# Altium footprint library TI Power Management Linear Regulator Single Channel LDO (0-350mA).PcbLib: 63 footprints (part 2 of 4)
Each footprint in its own frame and in the unit in brackets; x right, y up, seen from the top. Pads: shape width x height; smd on the part's side, far side on the other; paste and mask are expansions set on the pad; w line width, h text height; cw(c..) or ccw(c..) is an arc to the next point about the centre after c.
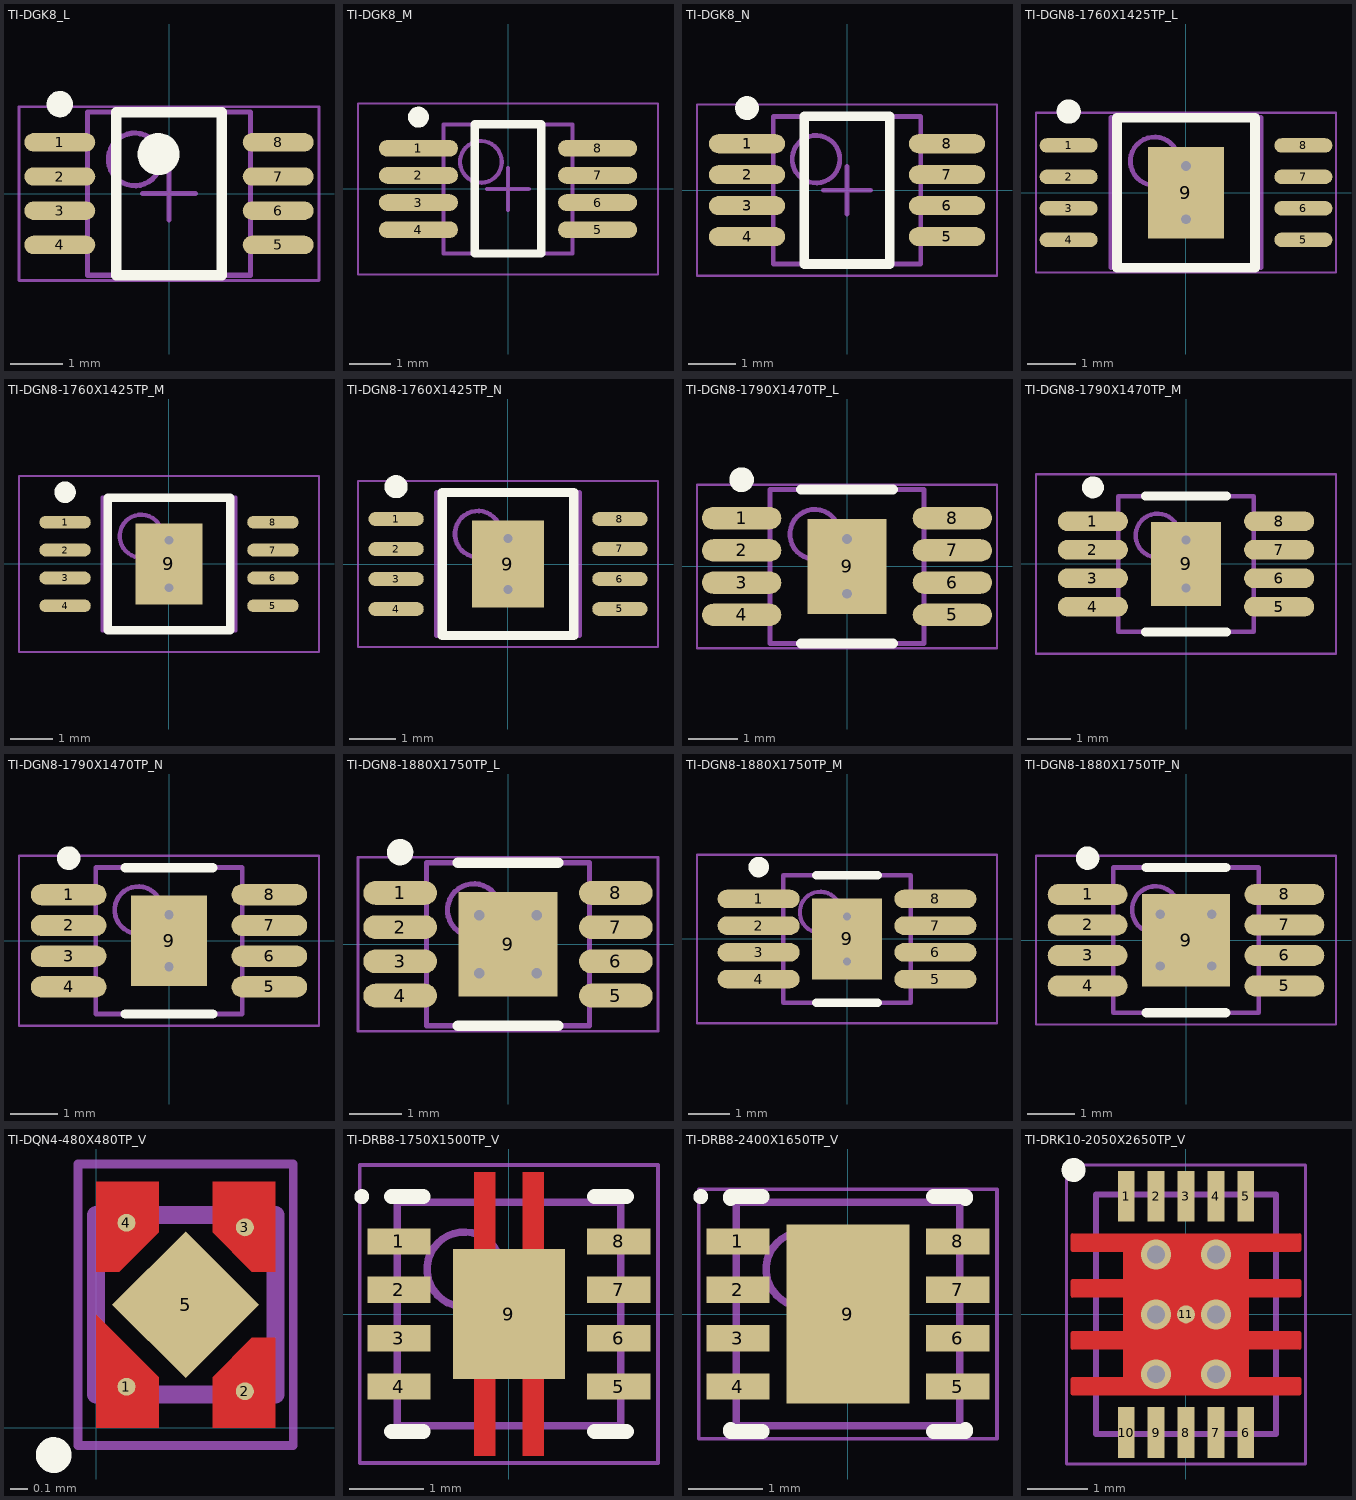
[diagram p1: the footprints below, top view; thin cyan lines are the x and y axes]

## TI-DGK8_L [mm] "SOP, 8-Leads, Body 3x3mm, Pitch 0.65mm, IPC High Density"
height 1.1
pads (8):
  oval 1.35x0.35 smd: 1(-2.075,0.975) 2(-2.075,0.325) 3(-2.075,-0.325) 4(-2.075,-0.975) 5(2.075,-0.975) 6(2.075,-0.325) 7(2.075,0.325) 8(2.075,0.975)
Top Overlay:
  circle w0.25: c-2.075,1.7 r0.125
  circle w0.4: c-0.2,0.75 r0.2
  lines w0.2: -1,-1.55 -1,1.55 1,1.55 1,-1.55 -1,-1.55
Mechanical 13:
  circle w0.1: c-0.65,0.65 r0.5
  lines w0.1: -1.55,-1.55 -1.55,1.55 1.55,1.55 1.55,-1.55 -1.55,-1.55
Mechanical 15:
  lines w0.05: -2.85,-1.65 -2.85,1.65 2.85,1.65 2.85,-1.65 -2.85,-1.65
  lines w0.1: -0.5,0 0.5,0 ; 0,-0.5 0,0.5
3D body: height 1.1, standoff 0.05, extent -1.55,-1.55 1.55,1.55

## TI-DGK8_M [mm] "SOP, 8-Leads, Body 3x3mm, Pitch 0.65mm, IPC Low Density"
height 1.1
pads (8):
  oval 1.9x0.4 smd: 1(-2.15,0.975) 2(-2.15,0.325) 3(-2.15,-0.325) 4(-2.15,-0.975) 5(2.15,-0.975) 6(2.15,-0.325) 7(2.15,0.325) 8(2.15,0.975)
Top Overlay:
  circle w0.25: c-2.15,1.725 r0.125
  lines w0.2: -0.8,-1.55 -0.8,1.55 0.8,1.55 0.8,-1.55 -0.8,-1.55
Mechanical 13:
  circle w0.1: c-0.65,0.65 r0.5
  lines w0.1: -1.55,-1.55 -1.55,1.55 1.55,1.55 1.55,-1.55 -1.55,-1.55
Mechanical 15:
  lines w0.05: -3.6,-2.05 -3.6,2.05 3.6,2.05 3.6,-2.05 -3.6,-2.05
  lines w0.1: -0.5,0 0.5,0 ; 0,-0.5 0,0.5
3D body: height 1.1, standoff 0.05, extent -1.55,-1.55 1.55,1.55

## TI-DGK8_N [mm] "SOP, 8-Leads, Body 3x3mm, Pitch 0.65mm, IPC Medium Density"
height 1.1
pads (8):
  oval 1.6x0.4 smd: 1(-2.1,0.975) 2(-2.1,0.325) 3(-2.1,-0.325) 4(-2.1,-0.975) 5(2.1,-0.975) 6(2.1,-0.325) 7(2.1,0.325) 8(2.1,0.975)
Top Overlay:
  circle w0.25: c-2.1,1.725 r0.125
  lines w0.2: -0.9,-1.55 0.9,-1.55 0.9,1.55 -0.9,1.55 -0.9,-1.55
Mechanical 13:
  circle w0.1: c-0.65,0.65 r0.5
  lines w0.1: -1.55,-1.55 1.55,-1.55 1.55,1.55 -1.55,1.55 -1.55,-1.55
Mechanical 15:
  lines w0.05: -3.15,-1.8 3.15,-1.8 3.15,1.8 -3.15,1.8 -3.15,-1.8
  lines w0.1: -0.5,0 0.5,0 ; 0,-0.5 0,0.5
3D body: height 1.1, standoff 0.05, extent -1.55,-1.55 1.55,1.55

## TI-DGN8-1760X1425TP_L [mm] "SOIC, 8-Leads, Body 3x3mm, Pitch 0.65mm, Thermal Pad 1.76x1.425mm, IPC High Density"
height 1.1
pads (9):
  oval 1.2x0.3 smd: 1(-2.425,0.975) 2(-2.425,0.325) 3(-2.425,-0.325) 4(-2.425,-0.975) 5(2.425,-0.975) 6(2.425,-0.325) 7(2.425,0.325) 8(2.425,0.975)
  rect 1.57x1.89 smd: 9(0,0)
via 0,-0.55 diameter 0.5 hole 0.2
via 0,0.55 diameter 0.5 hole 0.2
Top Overlay:
  circle w0.25: c-2.425,1.675 r0.125
  lines w0.2: -1.425,-1.55 1.425,-1.55 1.425,1.55 -1.425,1.55 -1.425,-1.55
Mechanical 13:
  circle w0.1: c-0.65,0.65 r0.5
  lines w0.1: -1.55,-1.55 1.55,-1.55 1.55,1.55 -1.55,1.55 -1.55,-1.55
Mechanical 15:
  lines w0.05: -3.1,-1.65 3.1,-1.65 3.1,1.65 -3.1,1.65 -3.1,-1.65
  lines w0.1: -0.5,0 0.5,0 ; 0,-0.5 0,0.5
3D body: height 1.1, standoff 0.05, extent -1.55,-1.55 1.55,1.55

## TI-DGN8-1760X1425TP_M [mm] "SOIC, 8-Leads, Body 3x3mm, Pitch 0.65mm, Thermal Pad 1.76x1.425mm, IPC Low Density"
height 1.1
pads (9):
  oval 1.2x0.3 smd: 1(-2.425,0.975) 2(-2.425,0.325) 3(-2.425,-0.325) 4(-2.425,-0.975) 5(2.425,-0.975) 6(2.425,-0.325) 7(2.425,0.325) 8(2.425,0.975)
  rect 1.57x1.89 smd: 9(0,0)
via 0,-0.55 diameter 0.5 hole 0.2
via 0,0.55 diameter 0.5 hole 0.2
Top Overlay:
  circle w0.25: c-2.425,1.675 r0.125
  lines w0.2: -1.425,-1.55 1.425,-1.55 1.425,1.55 -1.425,1.55 -1.425,-1.55
Mechanical 13:
  circle w0.1: c-0.65,0.65 r0.5
  lines w0.1: -1.55,-1.55 1.55,-1.55 1.55,1.55 -1.55,1.55 -1.55,-1.55
Mechanical 15:
  lines w0.05: -3.5,-2.05 3.5,-2.05 3.5,2.05 -3.5,2.05 -3.5,-2.05
  lines w0.1: -0.5,0 0.5,0 ; 0,-0.5 0,0.5
3D body: height 1.1, standoff 0.05, extent -1.55,-1.55 1.55,1.55

## TI-DGN8-1760X1425TP_N [mm] "SOIC, 8-Leads, Body 3x3mm, Pitch 0.65mm, Thermal Pad 1.76x1.425mm, IPC Medium Density"
height 1.1
pads (9):
  oval 1.2x0.3 smd: 1(-2.425,0.975) 2(-2.425,0.325) 3(-2.425,-0.325) 4(-2.425,-0.975) 5(2.425,-0.975) 6(2.425,-0.325) 7(2.425,0.325) 8(2.425,0.975)
  rect 1.57x1.89 smd: 9(0,0)
via 0,-0.55 diameter 0.5 hole 0.2
via 0,0.55 diameter 0.5 hole 0.2
Top Overlay:
  circle w0.25: c-2.425,1.675 r0.125
  lines w0.2: -1.425,-1.55 1.425,-1.55 1.425,1.55 -1.425,1.55 -1.425,-1.55
Mechanical 13:
  circle w0.1: c-0.65,0.65 r0.5
  lines w0.1: -1.55,-1.55 1.55,-1.55 1.55,1.55 -1.55,1.55 -1.55,-1.55
Mechanical 15:
  lines w0.05: -3.25,-1.8 3.25,-1.8 3.25,1.8 -3.25,1.8 -3.25,-1.8
  lines w0.1: -0.5,0 0.5,0 ; 0,-0.5 0,0.5
3D body: height 1.1, standoff 0.05, extent -1.55,-1.55 1.55,1.55

## TI-DGN8-1790X1470TP_L [mm] "SOIC, 8-Leads, Body 3x3mm, Pitch 0.65mm, Thermal Pad 1.79X1.47mm, IPC High Density"
height 1.1
pads (9):
  oval 1.6x0.45 smd: 1(-2.125,0.975) 2(-2.125,0.325) 3(-2.125,-0.325) 4(-2.125,-0.975) 5(2.125,-0.975) 6(2.125,-0.325) 7(2.125,0.325) 8(2.125,0.975)
  rect 1.6x1.92 smd: 9(0,0)
via 0,0.55 diameter 0.5 hole 0.2
via 0,-0.55 diameter 0.5 hole 0.2
Top Overlay:
  circle w0.25: c-2.125,1.75 r0.125
  lines w0.2: -0.925,-1.55 0.925,-1.55 ; -0.925,1.55 0.925,1.55
Mechanical 13:
  circle w0.1: c-0.65,0.65 r0.5
  lines w0.1: -1.55,-1.55 -1.55,1.55 1.55,1.55 1.55,-1.55 -1.55,-1.55
Mechanical 15:
  lines w0.05: -3.025,-1.65 -3.025,1.65 3.025,1.65 3.025,-1.65 -3.025,-1.65
  lines w0.1: -0.5,0 0.5,0 ; 0,-0.5 0,0.5
3D body: height 1.1, standoff 0.05, extent -1.55,-1.55 1.55,1.55

## TI-DGN8-1790X1470TP_M [mm] "SOIC, 8-Leads, Body 3x3mm, Pitch 0.65mm, Thermal Pad 1.79X1.47mm, IPC Low Density"
height 1.1
pads (9):
  oval 1.6x0.45 smd: 1(-2.125,0.975) 2(-2.125,0.325) 3(-2.125,-0.325) 4(-2.125,-0.975) 5(2.125,-0.975) 6(2.125,-0.325) 7(2.125,0.325) 8(2.125,0.975)
  rect 1.6x1.92 smd: 9(0,0)
via 0,0.55 diameter 0.5 hole 0.2
via 0,-0.55 diameter 0.5 hole 0.2
Top Overlay:
  circle w0.25: c-2.125,1.75 r0.125
  lines w0.2: -0.925,-1.55 0.925,-1.55 ; -0.925,1.55 0.925,1.55
Mechanical 13:
  circle w0.1: c-0.65,0.65 r0.5
  lines w0.1: -1.55,-1.55 -1.55,1.55 1.55,1.55 1.55,-1.55 -1.55,-1.55
Mechanical 15:
  lines w0.05: -3.425,-2.05 -3.425,2.05 3.425,2.05 3.425,-2.05 -3.425,-2.05
  lines w0.1: -0.5,0 0.5,0 ; 0,-0.5 0,0.5
3D body: height 1.1, standoff 0.05, extent -1.55,-1.55 1.55,1.55

## TI-DGN8-1790X1470TP_N [mm] "SOIC, 8-Leads, Body 3x3mm, Pitch 0.65mm, Thermal Pad 1.79X1.47mm, IPC Medium Density"
height 1.1
pads (9):
  oval 1.6x0.45 smd: 1(-2.125,0.975) 2(-2.125,0.325) 3(-2.125,-0.325) 4(-2.125,-0.975) 5(2.125,-0.975) 6(2.125,-0.325) 7(2.125,0.325) 8(2.125,0.975)
  rect 1.6x1.92 smd: 9(0,0)
via 0,0.55 diameter 0.5 hole 0.2
via 0,-0.55 diameter 0.5 hole 0.2
Top Overlay:
  circle w0.25: c-2.125,1.75 r0.125
  lines w0.2: -0.925,-1.55 0.925,-1.55 ; -0.925,1.55 0.925,1.55
Mechanical 13:
  circle w0.1: c-0.65,0.65 r0.5
  lines w0.1: -1.55,-1.55 -1.55,1.55 1.55,1.55 1.55,-1.55 -1.55,-1.55
Mechanical 15:
  lines w0.05: -3.175,-1.8 -3.175,1.8 3.175,1.8 3.175,-1.8 -3.175,-1.8
  lines w0.1: -0.5,0 0.5,0 ; 0,-0.5 0,0.5
3D body: height 1.1, standoff 0.05, extent -1.55,-1.55 1.55,1.55

## TI-DGN8-1880X1750TP_L [mm] "SOP, 8-Leads, Body 3x3mm, Pitch 0.65mm, Thermal Pad 1.88x1.75mm, IPC High Density"
height 1.1
pads (9):
  oval 1.4x0.45 smd: 1(-2.05,0.975) 2(-2.05,0.325) 3(-2.05,-0.325) 4(-2.05,-0.975) 5(2.05,-0.975) 6(2.05,-0.325) 7(2.05,0.325) 8(2.05,0.975)
  rect 1.88x1.98 smd: 9(0,0)
via -0.55,0.55 diameter 0.5 hole 0.2
via 0.55,0.55 diameter 0.5 hole 0.2
via -0.55,-0.55 diameter 0.5 hole 0.2
via 0.55,-0.55 diameter 0.5 hole 0.2
Top Overlay:
  circle w0.25: c-2.05,1.75 r0.125
  lines w0.2: -0.95,-1.55 0.95,-1.55 ; -0.95,1.55 0.95,1.55
Mechanical 13:
  circle w0.1: c-0.65,0.65 r0.5
  lines w0.1: -1.55,-1.55 -1.55,1.55 1.55,1.55 1.55,-1.55 -1.55,-1.55
Mechanical 15:
  lines w0.05: -2.85,-1.65 -2.85,1.65 2.85,1.65 2.85,-1.65 -2.85,-1.65
  lines w0.1: -0.5,0 0.5,0 ; 0,-0.5 0,0.5
3D body: height 1.1, standoff 0.05, extent -1.55,-1.55 1.55,1.55

## TI-DGN8-1880X1750TP_M [mm] "SOP, 8-Leads, Body 3x3mm, Pitch 0.65mm, Thermal Pad 1.88x1.75mm, IPC Low Density"
height 1.1
pads (9):
  oval 2x0.45 smd: 1(-2.15,0.975) 2(-2.15,0.325) 3(-2.15,-0.325) 4(-2.15,-0.975) 5(2.15,-0.975) 6(2.15,-0.325) 7(2.15,0.325) 8(2.15,0.975)
  rect 1.7x1.98 smd: 9(0,0)
via 0,0.55 diameter 0.5 hole 0.2
via 0,-0.55 diameter 0.5 hole 0.2
Top Overlay:
  circle w0.25: c-2.15,1.75 r0.125
  lines w0.2: -0.75,-1.55 0.75,-1.55 ; -0.75,1.55 0.75,1.55
Mechanical 13:
  circle w0.1: c-0.65,0.65 r0.5
  lines w0.1: -1.55,-1.55 -1.55,1.55 1.55,1.55 1.55,-1.55 -1.55,-1.55
Mechanical 15:
  lines w0.05: -3.65,-2.05 -3.65,2.05 3.65,2.05 3.65,-2.05 -3.65,-2.05
  lines w0.1: -0.5,0 0.5,0 ; 0,-0.5 0,0.5
3D body: height 1.1, standoff 0.05, extent -1.55,-1.55 1.55,1.55

## TI-DGN8-1880X1750TP_N [mm] "SOP, 8-Leads, Body 3x3mm, Pitch 0.65mm, Thermal Pad 1.88x1.75mm, IPC Medium Density"
height 1.1
pads (9):
  oval 1.7x0.45 smd: 1(-2.1,0.975) 2(-2.1,0.325) 3(-2.1,-0.325) 4(-2.1,-0.975) 5(2.1,-0.975) 6(2.1,-0.325) 7(2.1,0.325) 8(2.1,0.975)
  rect 1.88x1.98 smd: 9(0,0)
via -0.55,0.55 diameter 0.5 hole 0.2
via 0.55,0.55 diameter 0.5 hole 0.2
via -0.55,-0.55 diameter 0.5 hole 0.2
via 0.55,-0.55 diameter 0.5 hole 0.2
Top Overlay:
  circle w0.25: c-2.1,1.75 r0.125
  lines w0.2: -0.85,-1.55 0.85,-1.55 ; -0.85,1.55 0.85,1.55
Mechanical 13:
  circle w0.1: c-0.65,0.65 r0.5
  lines w0.1: -1.55,-1.55 -1.55,1.55 1.55,1.55 1.55,-1.55 -1.55,-1.55
Mechanical 15:
  lines w0.05: -3.2,-1.8 -3.2,1.8 3.2,1.8 3.2,-1.8 -3.2,-1.8
  lines w0.1: -0.5,0 0.5,0 ; 0,-0.5 0,0.5
3D body: height 1.1, standoff 0.05, extent -1.55,-1.55 1.55,1.55

## TI-DQN4-480X480TP_V [mm] "SON, 4-Leads, Body 1x1mm, Pitch 0.65mm, Thermal Pad 0.5x0.5mm"
height 0.4
pads (5):
  round 0.1 smd: 1(0.17,0.228) 2(0.83,0.202) 3(0.83,1.117) 4(0.17,1.142)
  rect 0.58x0.58 smd rot 45: 5(0.5,0.685)
Top Layer:
  region: 1,1.37 0.65,1.37 0.65,1.09 0.87,0.87 1,0.87
  region: 0.35,1.37 0,1.37 0,0.87 0.13,0.87 0.35,1.09
  region: 1,0.5 0.87,0.5 0.65,0.28 0.65,0 1,0
  region: 0.35,0.28 0.35,0 0,0 0,0.63
Top Overlay:
  circle w0.1: c-0.236,-0.153 r0.05
Top Paste:
  region: 1,1.37 0.65,1.37 0.65,1.09 0.87,0.87 1,0.87
  region: 0.35,1.37 0,1.37 0,0.87 0.13,0.87 0.35,1.09
  region: 1,0.5 0.87,0.5 0.65,0.28 0.65,0 1,0
  region: 0.35,0.28 0.35,0 0,0 0,0.63
Mechanical 13:
  lines w0.1: 0,0.185 1,0.185 1,1.185 0,1.185 0,0.185
Mechanical 15:
  lines w0.05: 0.297,0.685 0.703,0.685 ; 0.5,0.482 0.5,0.888 ; -0.1,-0.1 -0.1,1.47 1.1,1.47 1.1,-0.1 -0.1,-0.1
3D body: height 0.4, standoff 0, extent 0,0.185 1,1.185

## TI-DRB8-1750X1500TP_V [mm] "SON, 8-Leads, Body 3x3mm, Pitch 0.65mm, Thermal Pad 1.50 x 3.8mm"
height 1
pads (9):
  rect 0.85x0.35 smd: 1(-1.475,0.975) 2(-1.475,0.325) 3(-1.475,-0.325) 4(-1.475,-0.975) 5(1.475,-0.975) 6(1.475,-0.325) 7(1.475,0.325) 8(1.475,0.975)
  rect 1.5x1.75 smd: 9(0,0)
Top Layer:
  region: 0.185,0.875 0.185,1.9 0.465,1.9 0.465,0.875
  region: -0.185,-0.875 -0.185,-1.9 -0.465,-1.9 -0.465,-0.875
  region: 0.185,-0.875 0.185,-1.9 0.465,-1.9 0.465,-0.875
  region: -0.185,0.875 -0.185,1.9 -0.465,1.9 -0.465,0.875
Top Overlay:
  circle w0.1: c-1.975,1.575 r0.05
  lines w0.2: -1.575,-1.575 -1.15,-1.575 ; -1.575,1.575 -1.15,1.575 ; 1.15,-1.575 1.575,-1.575 ; 1.15,1.575 1.575,1.575
Top Paste:
  region: -0.185,0.875 -0.185,1.9 -0.465,1.9 -0.465,0.875
  region: 0.185,-0.875 0.185,-1.9 0.465,-1.9 0.465,-0.875
  region: -0.185,-0.875 -0.185,-1.9 -0.465,-1.9 -0.465,-0.875
  region: 0.185,0.875 0.185,1.9 0.465,1.9 0.465,0.875
Mechanical 13:
  circle w0.1: c-0.6,0.6 r0.5
  lines w0.1: -1.5,-1.5 -1.5,1.5 1.5,1.5 1.5,-1.5 -1.5,-1.5
Mechanical 15:
  lines w0.05: -2,-2 2,-2 2,-1.675 2,1.675 2,2 -2,2 -2,1.675 -2,-1.675 -2,-2
  lines w0.1: -0.5,0 0.5,0 ; 0,-0.5 0,0.5
3D body: height 1, standoff 0, extent -1.5,-1.5 1.5,1.5

## TI-DRB8-2400X1650TP_V [mm] "SON, 8-Leads, Body 3x3mm, Pitch 0.65mm, Thermal Pad 2.4x1.65mm"
height 1
pads (9):
  rect 0.85x0.35 smd: 1(-1.475,0.975) 2(-1.475,0.325) 3(-1.475,-0.325) 4(-1.475,-0.975) 5(1.475,-0.975) 6(1.475,-0.325) 7(1.475,0.325) 8(1.475,0.975)
  rect 1.65x2.4 smd: 9(0,0)
Top Overlay:
  circle w0.1: c-1.975,1.575 r0.05
  lines w0.2: -1.575,-1.55 -1.575,-1.575 -1.15,-1.575 ; -1.575,1.55 -1.575,1.575 -1.15,1.575 ; 1.15,-1.575 1.575,-1.575 1.575,-1.55 ; 1.15,1.575 1.575,1.575 1.575,1.55
Mechanical 13:
  circle w0.1: c-0.6,0.6 r0.5
  lines w0.1: -1.5,-1.5 1.5,-1.5 1.5,1.5 -1.5,1.5 -1.5,-1.5
Mechanical 15:
  lines w0.05: -2,-1.675 2,-1.675 2,1.675 -2,1.675 -2,-1.675
  lines w0.1: -0.5,0 0.5,0 ; 0,-0.5 0,0.5
3D body: height 1, standoff 0, extent -1.5,-1.5 1.5,1.5

## TI-DRK10-2050X2650TP_V [mm] "SON, 10-Leads, Body 4x3mm, Pitch 0.5mm, Thermal Pad 3.8x2.65mm"
height 1
pads (11):
  rect 0.28x0.85 smd: 1(-1,1.975) 2(-0.5,1.975) 3(0,1.975) 4(0.5,1.975) 5(1,1.975) 6(1,-1.975) 7(0.5,-1.975) 8(0,-1.975) 9(-0.5,-1.975) 10(-1,-1.975)
  round 0.3 smd: 11(0,0)
via 0.5,1 diameter 0.5 hole 0.3
via 0.5,0 diameter 0.5 hole 0.3
via -0.5,1 diameter 0.5 hole 0.3
via -0.5,0 diameter 0.5 hole 0.3
via 0.5,-1 diameter 0.5 hole 0.3
via -0.5,-1 diameter 0.5 hole 0.3
Top Layer:
  region: -1.927,-1.075 -1.919,-1.056 -1.9,-1.048 -1.9,-1.05 -1.05,-1.05 -1.05,-0.585 -1.9,-0.587 -1.919,-0.579 -1.927,-0.56 -1.925,-0.56 -1.927,-0.31 -1.919,-0.291 -1.9,-0.283 -1.9,-0.285 -1.05,-0.285 -1.05,0.284 -1.899,0.282 -1.918,0.29 -1.919,0.29 -1.918,0.29 -1.919,0.291 -1.919,0.29 -1.918,0.292 -1.919,0.291 -1.927,0.31 -1.925,0.31 -1.927,0.56 -1.919,0.579 -1.9,0.587 -1.9,0.585 -1.05,0.585 -1.05,1.05 -1.9,1.048 -1.919,1.056 -1.927,1.075 -1.925,1.075 -1.927,1.325 -1.919,1.344 -1.9,1.352 -1.9,1.35 1.9,1.352 1.919,1.344 1.927,1.325 1.925,1.325 1.927,1.075 1.919,1.056 1.9,1.048 1.9,1.05 1.05,1.05 1.05,0.585 1.9,0.587 1.919,0.579 1.927,0.56 1.925,0.56 1.927,0.31 1.919,0.291 1.9,0.283 1.9,0.285 1.05,0.285 1.05,-0.284 1.899,-0.282 1.918,-0.29 1.919,-0.29 1.918,-0.29 1.919,-0.291 1.919,-0.29 1.919,-0.291 1.927,-0.31 1.925,-0.31 1.927,-0.56 1.919,-0.579 1.9,-0.587 1.9,-0.585 1.05,-0.585 1.05,-1.05 1.9,-1.048 1.919,-1.056 1.927,-1.075 1.925,-1.075 1.927,-1.325 1.919,-1.344 1.9,-1.352 1.9,-1.35 -1.9,-1.352 -1.919,-1.344 -1.927,-1.325 -1.925,-1.325
  lines w0.05: -1.9,-1.325 -1.9,-1.075 -1.025,-1.075 -1.025,-0.56 -1.9,-0.56 -1.9,-0.31 -1.025,-0.31 -1.025,0.305 -1.021,0.309 -1.899,0.309 -1.9,0.31 -1.9,0.56 -1.025,0.56 -1.025,1.075 -1.9,1.075 -1.9,1.325 1.9,1.325 1.9,1.075 1.025,1.075 1.025,0.56 1.9,0.56 1.9,0.31 1.025,0.31 1.025,-0.305 1.021,-0.309 1.899,-0.309 1.9,-0.31 1.9,-0.56 1.025,-0.56 1.025,-1.075 1.9,-1.075 1.9,-1.325 -1.9,-1.325
Top Overlay:
  circle w0.2: c-1.878,2.413 r0.1
Top Paste:
  region: -1.927,-1.075 -1.919,-1.056 -1.9,-1.048 -1.9,-1.05 -1.05,-1.05 -1.05,-0.585 -1.9,-0.587 -1.919,-0.579 -1.927,-0.56 -1.925,-0.56 -1.927,-0.31 -1.919,-0.291 -1.9,-0.283 -1.9,-0.285 -1.05,-0.285 -1.05,0.284 -1.899,0.282 -1.918,0.29 -1.919,0.29 -1.918,0.29 -1.919,0.291 -1.919,0.29 -1.918,0.292 -1.919,0.291 -1.927,0.31 -1.925,0.31 -1.927,0.56 -1.919,0.579 -1.9,0.587 -1.9,0.585 -1.05,0.585 -1.05,1.05 -1.9,1.048 -1.919,1.056 -1.927,1.075 -1.925,1.075 -1.927,1.325 -1.919,1.344 -1.9,1.352 -1.9,1.35 1.9,1.352 1.919,1.344 1.927,1.325 1.925,1.325 1.927,1.075 1.919,1.056 1.9,1.048 1.9,1.05 1.05,1.05 1.05,0.585 1.9,0.587 1.919,0.579 1.927,0.56 1.925,0.56 1.927,0.31 1.919,0.291 1.9,0.283 1.9,0.285 1.05,0.285 1.05,-0.284 1.899,-0.282 1.918,-0.29 1.919,-0.29 1.918,-0.29 1.919,-0.291 1.919,-0.29 1.919,-0.291 1.927,-0.31 1.925,-0.31 1.927,-0.56 1.919,-0.579 1.9,-0.587 1.9,-0.585 1.05,-0.585 1.05,-1.05 1.9,-1.048 1.919,-1.056 1.927,-1.075 1.925,-1.075 1.927,-1.325 1.919,-1.344 1.9,-1.352 1.9,-1.35 -1.9,-1.352 -1.919,-1.344 -1.927,-1.325 -1.925,-1.325
Mechanical 13:
  lines w0.1: -1.5,-2 -1.5,2 1.5,2 1.5,-2 -1.5,-2
Mechanical 15:
  lines w0.05: -2,-2.5 2,-2.5 2,2.5 -2,2.5 -2,-2.5
  lines w0.1: -0.381,0 0.381,0 ; 0,-0.381 0,0.381
3D body: height 1, standoff 0, extent -1.5,-2 1.5,2